# Altium schematic symbol library Conn_Molex_22-23-2041_eec.SchLib: 1 symbol
Pins are listed as number, name and electrical type; pins without a type are passive.

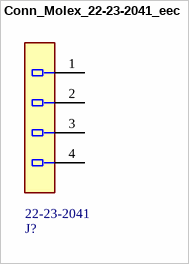
[diagram p0: symbol Conn_Molex_22-23-2041_eec]

## Conn_Molex_22-23-2041_eec
designator J?  Part Number: 22-23-2041
Manufacturer: Molex; Voltage: 500V; helpURL: https://upverter.com/upn/revision/98af4759b3200a4d/; ComponentLink2Description: Datasheet; Temperature: to; Package: HDR4; Supplier 2: Mouser; Supplier 1: Digi-Key; ComponentLink1URL: https://upverter.com/upn/revision/98af4759b3200a4d/; ComponentLink1Description: Upverter; ComponentLink2URL: http://www.molex.com/pdm_docs/sd/022232041_sd.pdf; RoHS: TRUE; Mouser Part Number: 538-22-23-2041; Digikey Part Number: WM4202-ND; Digikey Description: CONN HEADER 4POS .100 VERT TIN; Lead Free: yes; Temperature High: +80°C; Temperature Low: -40°C; Mouser Description: Headers & Wire Housings VERT PCB HDR 4P TIN FRICTION LOCK
footprint Molex_22-23-2041_0
pins: 1, 2, 3, 4